# Altium schematic symbol library CPLD_Altera.SchLib: 26 symbols (part 2 of 2)
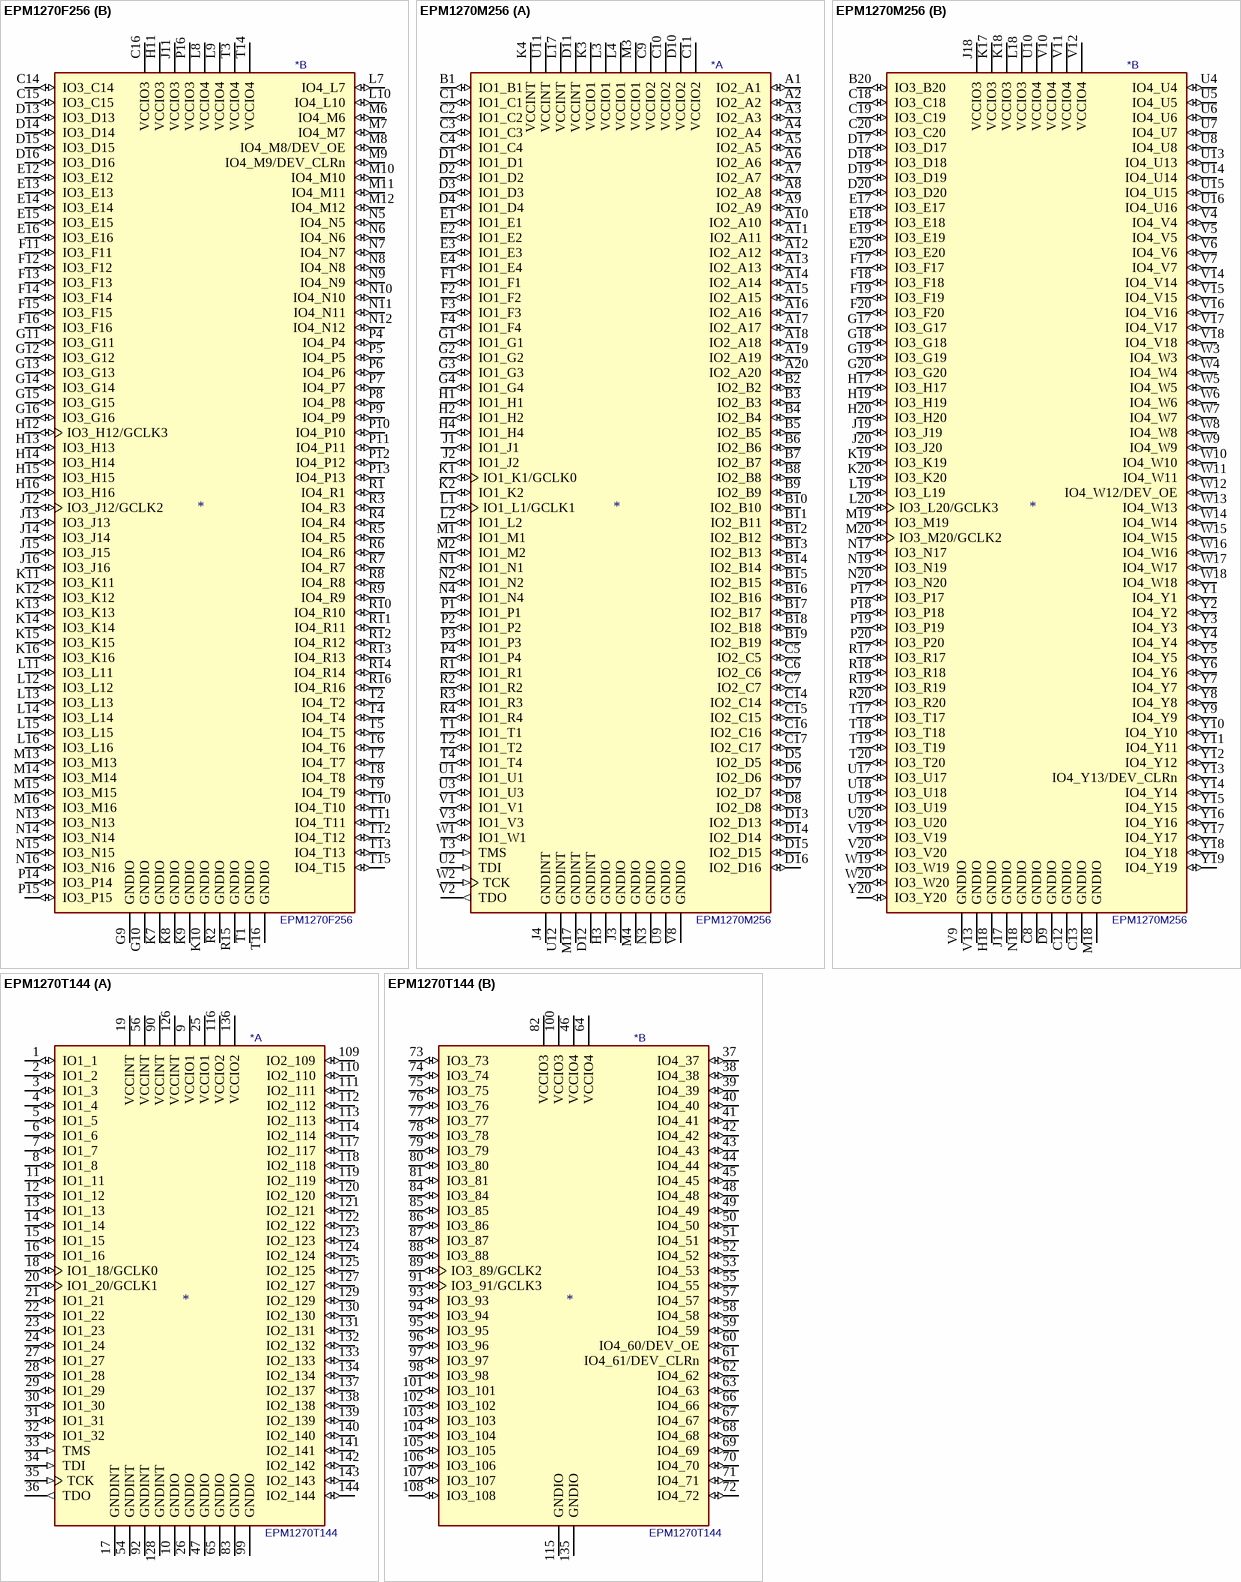
[diagram p7: symbols EPM1270F256 to EPM1270T144]

## EPM1270M256
designator *  value EPM1270M256
ki_keywords: MAX2 MBGA; ki_description: Altera MAX2 CPLD with 1270 LE; ki_fp_filters: *BGA*P0.5mm*; Footprint: Package_BGA:BGA-256_11.0x11.0mm_Layout20x20_P0.5mm_Ball0.3mm_Pad0.25mm_NSMD; Supplier: https://www.altera.com/content/dam/altera-www/global/en_US/pdfs/literature/hb/max2/max2_mii5v1.pdf
footprint BGA-256_11.0x11.0mm_Layout20x20_P0.5mm_Ball0.3mm_Pad0.25mm_NSMD
part A pins: A1 IO2_A1 (io), A2 IO2_A2 (io), A3 IO2_A3 (io), A4 IO2_A4 (io), A5 IO2_A5 (io), A6 IO2_A6 (io), A7 IO2_A7 (io), A8 IO2_A8 (io), A9 IO2_A9 (io), A10 IO2_A10 (io), A11 IO2_A11 (io), A12 IO2_A12 (io), A13 IO2_A13 (io), A14 IO2_A14 (io), A15 IO2_A15 (io), A16 IO2_A16 (io), A17 IO2_A17 (io), A18 IO2_A18 (io), A19 IO2_A19 (io), A20 IO2_A20 (io), B1 IO1_B1 (io), B2 IO2_B2 (io), B3 IO2_B3 (io), B4 IO2_B4 (io), B5 IO2_B5 (io), B6 IO2_B6 (io), B7 IO2_B7 (io), B8 IO2_B8 (io), B9 IO2_B9 (io), B10 IO2_B10 (io), B11 IO2_B11 (io), B12 IO2_B12 (io), B13 IO2_B13 (io), B14 IO2_B14 (io), B15 IO2_B15 (io), B16 IO2_B16 (io), B17 IO2_B17 (io), B18 IO2_B18 (io), B19 IO2_B19 (io), C1 IO1_C1 (io), C2 IO1_C2 (io), C3 IO1_C3 (io), C4 IO1_C4 (io), C5 IO2_C5 (io), C6 IO2_C6 (io), C7 IO2_C7 (io), C9 VCCIO2 (power), C10 VCCIO2 (power), C11 VCCIO2 (power), C14 IO2_C14 (io), C15 IO2_C15 (io), C16 IO2_C16 (io), C17 IO2_C17 (io), D1 IO1_D1 (io), D2 IO1_D2 (io), D3 IO1_D3 (io), D4 IO1_D4 (io), D5 IO2_D5 (io), D6 IO2_D6 (io), D7 IO2_D7 (io), D8 IO2_D8 (io), D10 VCCIO2 (power), D11 VCCINT (power), D12 GNDINT (power), D13 IO2_D13 (io), D14 IO2_D14 (io), D15 IO2_D15 (io), D16 IO2_D16 (io), E1 IO1_E1 (io), E2 IO1_E2 (io), E3 IO1_E3 (io), E4 IO1_E4 (io), F1 IO1_F1 (io), F2 IO1_F2 (io), F3 IO1_F3 (io), F4 IO1_F4 (io), G1 IO1_G1 (io), G2 IO1_G2 (io), G3 IO1_G3 (io), G4 IO1_G4 (io), H1 IO1_H1 (io), H2 IO1_H2 (io), H3 GNDIO (power), H4 IO1_H4 (io), J1 IO1_J1 (io), J2 IO1_J2 (io), J3 GNDIO (power), J4 GNDINT (power), K1 IO1_K1/GCLK0 (io), K2 IO1_K2 (io), K3 VCCIO1 (power), K4 VCCINT (power), L1 IO1_L1/GCLK1 (io), L2 IO1_L2 (io), L3 VCCIO1 (power), L4 VCCIO1 (power), L17 VCCINT (power), M1 IO1_M1 (io), M2 IO1_M2 (io), M3 VCCIO1 (power), M4 GNDIO (power), M17 GNDINT (power), N1 IO1_N1 (io), N2 IO1_N2 (io), N3 GNDIO (power), N4 IO1_N4 (io), P1 IO1_P1 (io), P2 IO1_P2 (io), P3 IO1_P3 (io), P4 IO1_P4 (io), R1 IO1_R1 (io), R2 IO1_R2 (io), R3 IO1_R3 (io), R4 IO1_R4 (io), T1 IO1_T1 (io), T2 IO1_T2 (io), T3 TMS (in), T4 IO1_T4 (io), U1 IO1_U1 (io), U2 TDI (in), U3 IO1_U3 (io), U9 GNDIO (power), U11 VCCINT (power), U12 GNDINT (power), V1 IO1_V1 (io), V2 TDO (out), V3 IO1_V3 (io), V8 GNDIO (power), W1 IO1_W1 (io), W2 TCK (in)
part B pins: B20 IO3_B20 (io), C8 GNDIO (power), C12 GNDIO (power), C13 GNDIO (power), C18 IO3_C18 (io), C19 IO3_C19 (io), C20 IO3_C20 (io), D9 GNDIO (power), D17 IO3_D17 (io), D18 IO3_D18 (io), D19 IO3_D19 (io), D20 IO3_D20 (io), E17 IO3_E17 (io), E18 IO3_E18 (io), E19 IO3_E19 (io), E20 IO3_E20 (io), F17 IO3_F17 (io), F18 IO3_F18 (io), F19 IO3_F19 (io), F20 IO3_F20 (io), G17 IO3_G17 (io), G18 IO3_G18 (io), G19 IO3_G19 (io), G20 IO3_G20 (io), H17 IO3_H17 (io), H18 GNDIO (power), H19 IO3_H19 (io), H20 IO3_H20 (io), J17 GNDIO (power), J18 VCCIO3 (power), J19 IO3_J19 (io), J20 IO3_J20 (io), K17 VCCIO3 (power), K18 VCCIO3 (power), K19 IO3_K19 (io), K20 IO3_K20 (io), L18 VCCIO3 (power), L19 IO3_L19 (io), L20 IO3_L20/GCLK3 (io), M18 GNDIO (power), M19 IO3_M19 (io), M20 IO3_M20/GCLK2 (io), N17 IO3_N17 (io), N18 GNDIO (power), N19 IO3_N19 (io), N20 IO3_N20 (io), P17 IO3_P17 (io), P18 IO3_P18 (io), P19 IO3_P19 (io), P20 IO3_P20 (io), R17 IO3_R17 (io), R18 IO3_R18 (io), R19 IO3_R19 (io), R20 IO3_R20 (io), T17 IO3_T17 (io), T18 IO3_T18 (io), T19 IO3_T19 (io), T20 IO3_T20 (io), U4 IO4_U4 (io), U5 IO4_U5 (io), U6 IO4_U6 (io), U7 IO4_U7 (io), U8 IO4_U8 (io), U10 VCCIO4 (power), U13 IO4_U13 (io), U14 IO4_U14 (io), U15 IO4_U15 (io), U16 IO4_U16 (io), U17 IO3_U17 (io), U18 IO3_U18 (io), U19 IO3_U19 (io), U20 IO3_U20 (io), V4 IO4_V4 (io), V5 IO4_V5 (io), V6 IO4_V6 (io), V7 IO4_V7 (io), V9 GNDIO (power), V10 VCCIO4 (power), V11 VCCIO4 (power), V12 VCCIO4 (power), V13 GNDIO (power), V14 IO4_V14 (io), V15 IO4_V15 (io), V16 IO4_V16 (io), V17 IO4_V17 (io), V18 IO4_V18 (io), V19 IO3_V19 (io), V20 IO3_V20 (io), W3 IO4_W3 (io), W4 IO4_W4 (io), W5 IO4_W5 (io), W6 IO4_W6 (io), W7 IO4_W7 (io), W8 IO4_W8 (io), W9 IO4_W9 (io), W10 IO4_W10 (io), W11 IO4_W11 (io), W12 IO4_W12/DEV_OE (io), W13 IO4_W13 (io), W14 IO4_W14 (io), W15 IO4_W15 (io), W16 IO4_W16 (io), W17 IO4_W17 (io), W18 IO4_W18 (io), W19 IO3_W19 (io), W20 IO3_W20 (io), Y1 IO4_Y1 (io), Y2 IO4_Y2 (io), Y3 IO4_Y3 (io), Y4 IO4_Y4 (io), Y5 IO4_Y5 (io), Y6 IO4_Y6 (io), Y7 IO4_Y7 (io), Y8 IO4_Y8 (io), Y9 IO4_Y9 (io), Y10 IO4_Y10 (io), Y11 IO4_Y11 (io), Y12 IO4_Y12 (io), Y13 IO4_Y13/DEV_CLRn (io), Y14 IO4_Y14 (io), Y15 IO4_Y15 (io), Y16 IO4_Y16 (io), Y17 IO4_Y17 (io), Y18 IO4_Y18 (io), Y19 IO4_Y19 (io), Y20 IO3_Y20 (io)

## EPM1270T144
designator *  value EPM1270T144
ki_keywords: MAX2 TQFP; ki_description: Altera MAX2 CPLD with 1270 LE; ki_fp_filters: *QFP*P0.5mm*; Footprint: Package_QFP:LQFP-144_20x20mm_P0.5mm; Supplier: https://www.altera.com/content/dam/altera-www/global/en_US/pdfs/literature/hb/max2/max2_mii5v1.pdf
footprint LQFP-144_20x20mm_P0.5mm
part A pins: 1 IO1_1 (io), 2 IO1_2 (io), 3 IO1_3 (io), 4 IO1_4 (io), 5 IO1_5 (io), 6 IO1_6 (io), 7 IO1_7 (io), 8 IO1_8 (io), 9 VCCIO1 (power), 10 GNDIO (power), 11 IO1_11 (io), 12 IO1_12 (io), 13 IO1_13 (io), 14 IO1_14 (io), 15 IO1_15 (io), 16 IO1_16 (io), 17 GNDINT (power), 18 IO1_18/GCLK0 (io), 19 VCCINT (power), 20 IO1_20/GCLK1 (io), 21 IO1_21 (io), 22 IO1_22 (io), 23 IO1_23 (io), 24 IO1_24 (io), 25 VCCIO1 (power), 26 GNDIO (power), 27 IO1_27 (io), 28 IO1_28 (io), 29 IO1_29 (io), 30 IO1_30 (io), 31 IO1_31 (io), 32 IO1_32 (io), 33 TMS (in), 34 TDI (in), 35 TCK (in), 36 TDO (out), 47 GNDIO (power), 54 GNDINT (power), 56 VCCINT (power), 65 GNDIO (power), 83 GNDIO (power), 90 VCCINT (power), 92 GNDINT (power), 99 GNDIO (power), 109 IO2_109 (io), 110 IO2_110 (io), 111 IO2_111 (io), 112 IO2_112 (io), 113 IO2_113 (io), 114 IO2_114 (io), 116 VCCIO2 (power), 117 IO2_117 (io), 118 IO2_118 (io), 119 IO2_119 (io), 120 IO2_120 (io), 121 IO2_121 (io), 122 IO2_122 (io), 123 IO2_123 (io), 124 IO2_124 (io), 125 IO2_125 (io), 126 VCCINT (power), 127 IO2_127 (io), 128 GNDINT (power), 129 IO2_129 (io), 130 IO2_130 (io), 131 IO2_131 (io), 132 IO2_132 (io), 133 IO2_133 (io), 134 IO2_134 (io), 136 VCCIO2 (power), 137 IO2_137 (io), 138 IO2_138 (io), 139 IO2_139 (io), 140 IO2_140 (io), 141 IO2_141 (io), 142 IO2_142 (io), 143 IO2_143 (io), 144 IO2_144 (io)
part B pins: 37 IO4_37 (io), 38 IO4_38 (io), 39 IO4_39 (io), 40 IO4_40 (io), 41 IO4_41 (io), 42 IO4_42 (io), 43 IO4_43 (io), 44 IO4_44 (io), 45 IO4_45 (io), 46 VCCIO4 (power), 48 IO4_48 (io), 49 IO4_49 (io), 50 IO4_50 (io), 51 IO4_51 (io), 52 IO4_52 (io), 53 IO4_53 (io), 55 IO4_55 (io), 57 IO4_57 (io), 58 IO4_58 (io), 59 IO4_59 (io), 60 IO4_60/DEV_OE (io), 61 IO4_61/DEV_CLRn (io), 62 IO4_62 (io), 63 IO4_63 (io), 64 VCCIO4 (power), 66 IO4_66 (io), 67 IO4_67 (io), 68 IO4_68 (io), 69 IO4_69 (io), 70 IO4_70 (io), 71 IO4_71 (io), 72 IO4_72 (io), 73 IO3_73 (io), 74 IO3_74 (io), 75 IO3_75 (io), 76 IO3_76 (io), 77 IO3_77 (io), 78 IO3_78 (io), 79 IO3_79 (io), 80 IO3_80 (io), 81 IO3_81 (io), 82 VCCIO3 (power), 84 IO3_84 (io), 85 IO3_85 (io), 86 IO3_86 (io), 87 IO3_87 (io), 88 IO3_88 (io), 89 IO3_89/GCLK2 (io), 91 IO3_91/GCLK3 (io), 93 IO3_93 (io), 94 IO3_94 (io), 95 IO3_95 (io), 96 IO3_96 (io), 97 IO3_97 (io), 98 IO3_98 (io), 100 VCCIO3 (power), 101 IO3_101 (io), 102 IO3_102 (io), 103 IO3_103 (io), 104 IO3_104 (io), 105 IO3_105 (io), 106 IO3_106 (io), 107 IO3_107 (io), 108 IO3_108 (io), 115 GNDIO (power), 135 GNDIO (power)

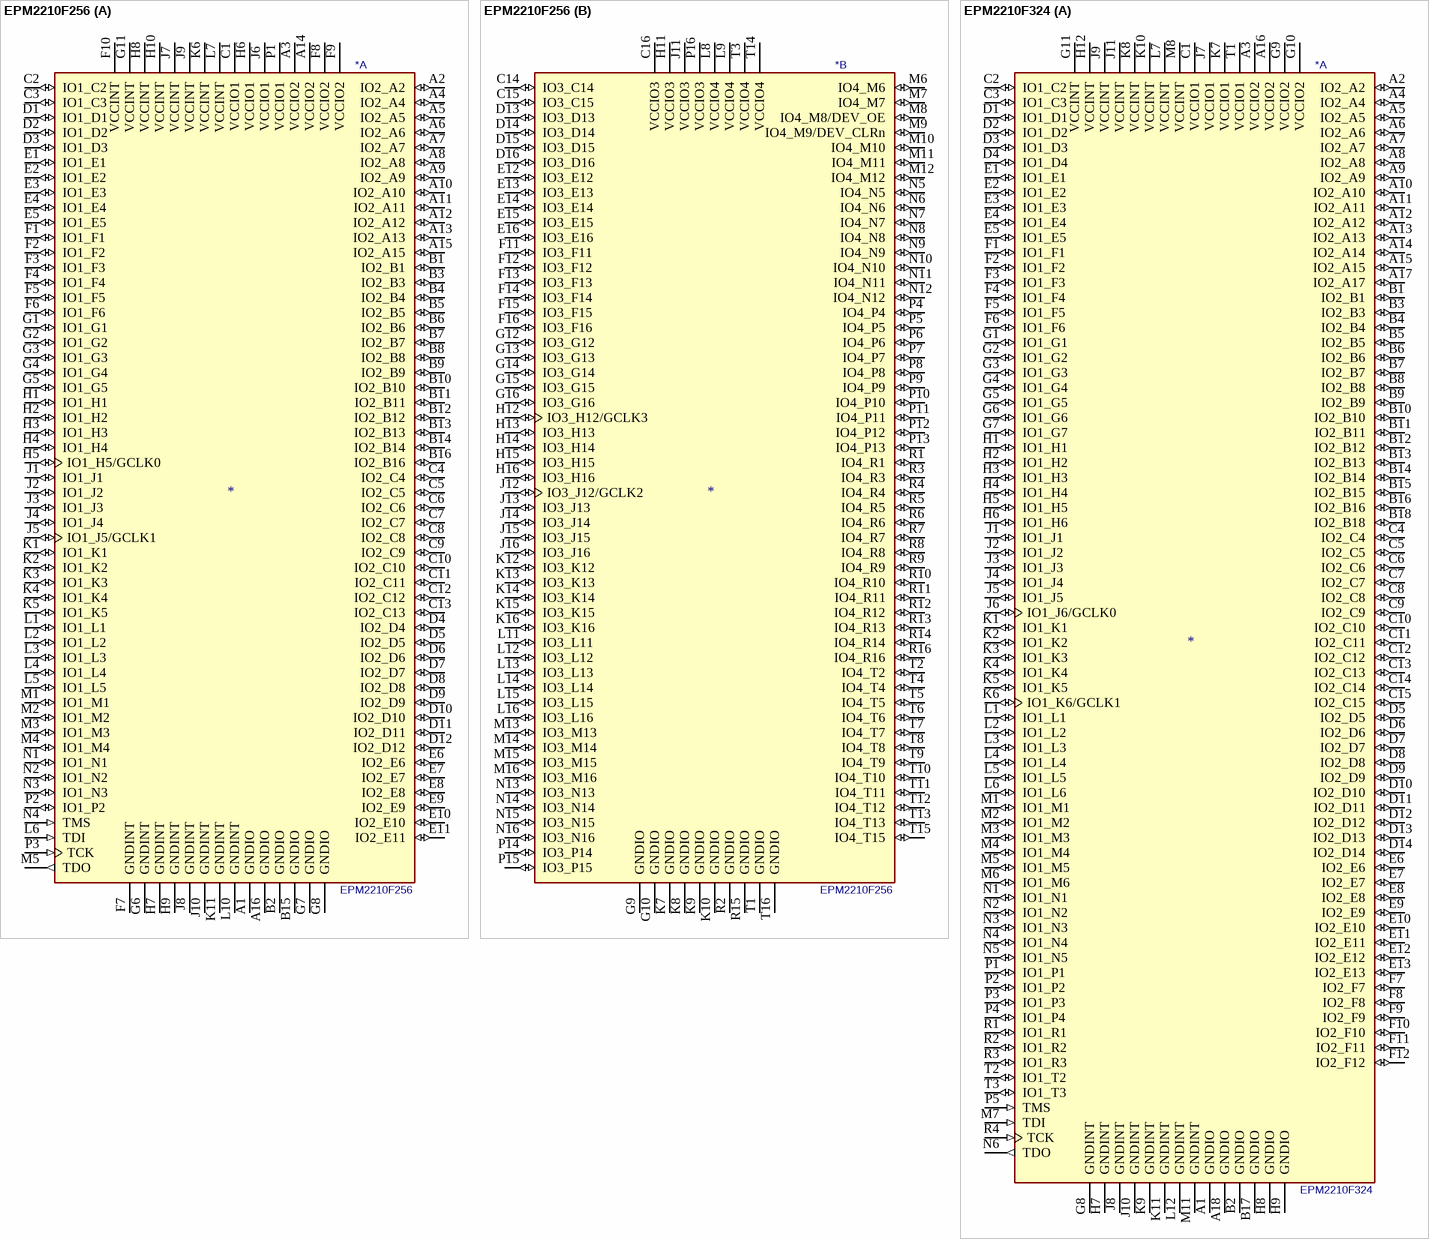
[diagram p5: symbols EPM2210F256 to EPM2210F324]

## EPM2210F256
designator *  value EPM2210F256
ki_keywords: MAX2 FBGA; ki_description: Altera MAX2 CPLD with 2210 LE; ki_fp_filters: *BGA*P1.0mm*; Footprint: Package_BGA:BGA-256_17.0x17.0mm_Layout16x16_P1.0mm_Ball0.5mm_Pad0.4mm_NSMD; Supplier: https://www.altera.com/content/dam/altera-www/global/en_US/pdfs/literature/hb/max2/max2_mii5v1.pdf
footprint BGA-256_17.0x17.0mm_Layout16x16_P1.0mm_Ball0.5mm_Pad0.4mm_NSMD
part A pins: A1 GNDIO (power), A2 IO2_A2 (io), A3 VCCIO2 (power), A4 IO2_A4 (io), A5 IO2_A5 (io), A6 IO2_A6 (io), A7 IO2_A7 (io), A8 IO2_A8 (io), A9 IO2_A9 (io), A10 IO2_A10 (io), A11 IO2_A11 (io), A12 IO2_A12 (io), A13 IO2_A13 (io), A14 VCCIO2 (power), A15 IO2_A15 (io), A16 GNDIO (power), B1 IO2_B1 (io), B2 GNDIO (power), B3 IO2_B3 (io), B4 IO2_B4 (io), B5 IO2_B5 (io), B6 IO2_B6 (io), B7 IO2_B7 (io), B8 IO2_B8 (io), B9 IO2_B9 (io), B10 IO2_B10 (io), B11 IO2_B11 (io), B12 IO2_B12 (io), B13 IO2_B13 (io), B14 IO2_B14 (io), B15 GNDIO (power), B16 IO2_B16 (io), C1 VCCIO1 (power), C2 IO1_C2 (io), C3 IO1_C3 (io), C4 IO2_C4 (io), C5 IO2_C5 (io), C6 IO2_C6 (io), C7 IO2_C7 (io), C8 IO2_C8 (io), C9 IO2_C9 (io), C10 IO2_C10 (io), C11 IO2_C11 (io), C12 IO2_C12 (io), C13 IO2_C13 (io), D1 IO1_D1 (io), D2 IO1_D2 (io), D3 IO1_D3 (io), D4 IO2_D4 (io), D5 IO2_D5 (io), D6 IO2_D6 (io), D7 IO2_D7 (io), D8 IO2_D8 (io), D9 IO2_D9 (io), D10 IO2_D10 (io), D11 IO2_D11 (io), D12 IO2_D12 (io), E1 IO1_E1 (io), E2 IO1_E2 (io), E3 IO1_E3 (io), E4 IO1_E4 (io), E5 IO1_E5 (io), E6 IO2_E6 (io), E7 IO2_E7 (io), E8 IO2_E8 (io), E9 IO2_E9 (io), E10 IO2_E10 (io), E11 IO2_E11 (io), F1 IO1_F1 (io), F2 IO1_F2 (io), F3 IO1_F3 (io), F4 IO1_F4 (io), F5 IO1_F5 (io), F6 IO1_F6 (io), F7 GNDINT (power), F8 VCCIO2 (power), F9 VCCIO2 (power), F10 VCCINT (power), G1 IO1_G1 (io), G2 IO1_G2 (io), G3 IO1_G3 (io), G4 IO1_G4 (io), G5 IO1_G5 (io), G6 GNDINT (power), G7 GNDIO (power), G8 GNDIO (power), G11 VCCINT (power), H1 IO1_H1 (io), H2 IO1_H2 (io), H3 IO1_H3 (io), H4 IO1_H4 (io), H5 IO1_H5/GCLK0 (io), H6 VCCIO1 (power), H7 GNDINT (power), H8 VCCINT (power), H9 GNDINT (power), H10 VCCINT (power), J1 IO1_J1 (io), J2 IO1_J2 (io), J3 IO1_J3 (io), J4 IO1_J4 (io), J5 IO1_J5/GCLK1 (io), J6 VCCIO1 (power), J7 VCCINT (power), J8 GNDINT (power), J9 VCCINT (power), J10 GNDINT (power), K1 IO1_K1 (io), K2 IO1_K2 (io), K3 IO1_K3 (io), K4 IO1_K4 (io), K5 IO1_K5 (io), K6 VCCINT (power), K11 GNDINT (power), L1 IO1_L1 (io), L2 IO1_L2 (io), L3 IO1_L3 (io), L4 IO1_L4 (io), L5 IO1_L5 (io), L6 TDI (in), L7 VCCINT (power), L10 GNDINT (power), M1 IO1_M1 (io), M2 IO1_M2 (io), M3 IO1_M3 (io), M4 IO1_M4 (io), M5 TDO (out), N1 IO1_N1 (io), N2 IO1_N2 (io), N3 IO1_N3 (io), N4 TMS (in), P1 VCCIO1 (power), P2 IO1_P2 (io), P3 TCK (in)
part B pins: C14 IO3_C14 (io), C15 IO3_C15 (io), C16 VCCIO3 (power), D13 IO3_D13 (io), D14 IO3_D14 (io), D15 IO3_D15 (io), D16 IO3_D16 (io), E12 IO3_E12 (io), E13 IO3_E13 (io), E14 IO3_E14 (io), E15 IO3_E15 (io), E16 IO3_E16 (io), F11 IO3_F11 (io), F12 IO3_F12 (io), F13 IO3_F13 (io), F14 IO3_F14 (io), F15 IO3_F15 (io), F16 IO3_F16 (io), G9 GNDIO (power), G10 GNDIO (power), G12 IO3_G12 (io), G13 IO3_G13 (io), G14 IO3_G14 (io), G15 IO3_G15 (io), G16 IO3_G16 (io), H11 VCCIO3 (power), H12 IO3_H12/GCLK3 (io), H13 IO3_H13 (io), H14 IO3_H14 (io), H15 IO3_H15 (io), H16 IO3_H16 (io), J11 VCCIO3 (power), J12 IO3_J12/GCLK2 (io), J13 IO3_J13 (io), J14 IO3_J14 (io), J15 IO3_J15 (io), J16 IO3_J16 (io), K7 GNDIO (power), K8 GNDIO (power), K9 GNDIO (power), K10 GNDIO (power), K12 IO3_K12 (io), K13 IO3_K13 (io), K14 IO3_K14 (io), K15 IO3_K15 (io), K16 IO3_K16 (io), L8 VCCIO4 (power), L9 VCCIO4 (power), L11 IO3_L11 (io), L12 IO3_L12 (io), L13 IO3_L13 (io), L14 IO3_L14 (io), L15 IO3_L15 (io), L16 IO3_L16 (io), M6 IO4_M6 (io), M7 IO4_M7 (io), M8 IO4_M8/DEV_OE (io), M9 IO4_M9/DEV_CLRn (io), M10 IO4_M10 (io), M11 IO4_M11 (io), M12 IO4_M12 (io), M13 IO3_M13 (io), M14 IO3_M14 (io), M15 IO3_M15 (io), M16 IO3_M16 (io), N5 IO4_N5 (io), N6 IO4_N6 (io), N7 IO4_N7 (io), N8 IO4_N8 (io), N9 IO4_N9 (io), N10 IO4_N10 (io), N11 IO4_N11 (io), N12 IO4_N12 (io), N13 IO3_N13 (io), N14 IO3_N14 (io), N15 IO3_N15 (io), N16 IO3_N16 (io), P4 IO4_P4 (io), P5 IO4_P5 (io), P6 IO4_P6 (io), P7 IO4_P7 (io), P8 IO4_P8 (io), P9 IO4_P9 (io), P10 IO4_P10 (io), P11 IO4_P11 (io), P12 IO4_P12 (io), P13 IO4_P13 (io), P14 IO3_P14 (io), P15 IO3_P15 (io), P16 VCCIO3 (power), R1 IO4_R1 (io), R2 GNDIO (power), R3 IO4_R3 (io), R4 IO4_R4 (io), R5 IO4_R5 (io), R6 IO4_R6 (io), R7 IO4_R7 (io), R8 IO4_R8 (io), R9 IO4_R9 (io), R10 IO4_R10 (io), R11 IO4_R11 (io), R12 IO4_R12 (io), R13 IO4_R13 (io), R14 IO4_R14 (io), R15 GNDIO (power), R16 IO4_R16 (io), T1 GNDIO (power), T2 IO4_T2 (io), T3 VCCIO4 (power), T4 IO4_T4 (io), T5 IO4_T5 (io), T6 IO4_T6 (io), T7 IO4_T7 (io), T8 IO4_T8 (io), T9 IO4_T9 (io), T10 IO4_T10 (io), T11 IO4_T11 (io), T12 IO4_T12 (io), T13 IO4_T13 (io), T14 VCCIO4 (power), T15 IO4_T15 (io), T16 GNDIO (power)

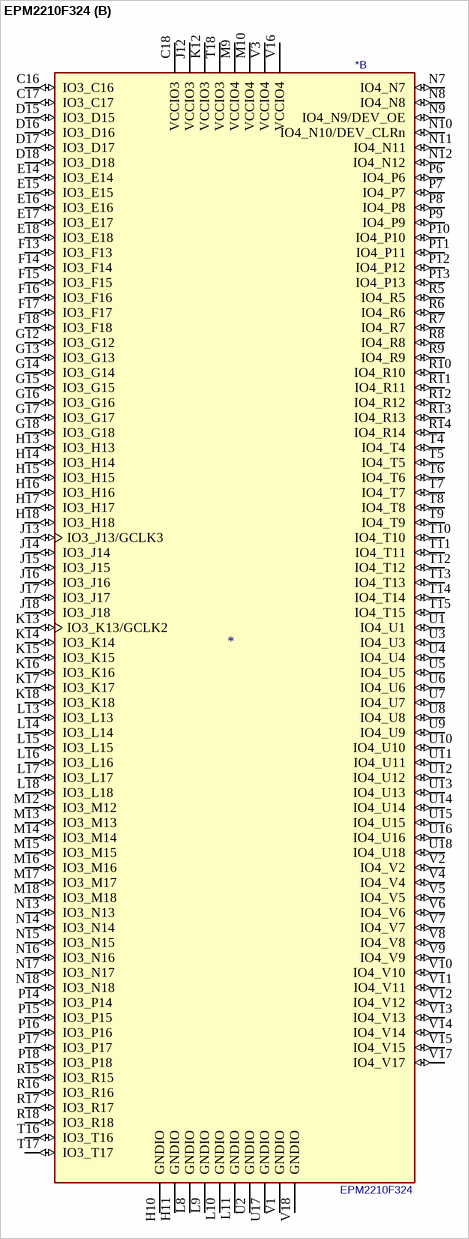
[diagram p6: symbol EPM2210F324]

## EPM2210F324
designator *  value EPM2210F324
ki_keywords: MAX2 FBGA; ki_description: Altera MAX2 CPLD with 2210 LE; ki_fp_filters: *BGA*P1.0mm*; Footprint: Package_BGA:BGA-324_19.0x19.0mm_Layout18x18_P1.0mm_Ball0.5mm_Pad0.4mm_NSMD; Supplier: https://www.altera.com/content/dam/altera-www/global/en_US/pdfs/literature/hb/max2/max2_mii5v1.pdf
footprint BGA-324_19.0x19.0mm_Layout18x18_P1.0mm_Ball0.5mm_Pad0.4mm_NSMD
part A pins: A1 GNDIO (power), A2 IO2_A2 (io), A3 VCCIO2 (power), A4 IO2_A4 (io), A5 IO2_A5 (io), A6 IO2_A6 (io), A7 IO2_A7 (io), A8 IO2_A8 (io), A9 IO2_A9 (io), A10 IO2_A10 (io), A11 IO2_A11 (io), A12 IO2_A12 (io), A13 IO2_A13 (io), A14 IO2_A14 (io), A15 IO2_A15 (io), A16 VCCIO2 (power), A17 IO2_A17 (io), A18 GNDIO (power), B1 IO2_B1 (io), B2 GNDIO (power), B3 IO2_B3 (io), B4 IO2_B4 (io), B5 IO2_B5 (io), B6 IO2_B6 (io), B7 IO2_B7 (io), B8 IO2_B8 (io), B9 IO2_B9 (io), B10 IO2_B10 (io), B11 IO2_B11 (io), B12 IO2_B12 (io), B13 IO2_B13 (io), B14 IO2_B14 (io), B15 IO2_B15 (io), B16 IO2_B16 (io), B17 GNDIO (power), B18 IO2_B18 (io), C1 VCCIO1 (power), C2 IO1_C2 (io), C3 IO1_C3 (io), C4 IO2_C4 (io), C5 IO2_C5 (io), C6 IO2_C6 (io), C7 IO2_C7 (io), C8 IO2_C8 (io), C9 IO2_C9 (io), C10 IO2_C10 (io), C11 IO2_C11 (io), C12 IO2_C12 (io), C13 IO2_C13 (io), C14 IO2_C14 (io), C15 IO2_C15 (io), D1 IO1_D1 (io), D2 IO1_D2 (io), D3 IO1_D3 (io), D4 IO1_D4 (io), D5 IO2_D5 (io), D6 IO2_D6 (io), D7 IO2_D7 (io), D8 IO2_D8 (io), D9 IO2_D9 (io), D10 IO2_D10 (io), D11 IO2_D11 (io), D12 IO2_D12 (io), D13 IO2_D13 (io), D14 IO2_D14 (io), E1 IO1_E1 (io), E2 IO1_E2 (io), E3 IO1_E3 (io), E4 IO1_E4 (io), E5 IO1_E5 (io), E6 IO2_E6 (io), E7 IO2_E7 (io), E8 IO2_E8 (io), E9 IO2_E9 (io), E10 IO2_E10 (io), E11 IO2_E11 (io), E12 IO2_E12 (io), E13 IO2_E13 (io), F1 IO1_F1 (io), F2 IO1_F2 (io), F3 IO1_F3 (io), F4 IO1_F4 (io), F5 IO1_F5 (io), F6 IO1_F6 (io), F7 IO2_F7 (io), F8 IO2_F8 (io), F9 IO2_F9 (io), F10 IO2_F10 (io), F11 IO2_F11 (io), F12 IO2_F12 (io), G1 IO1_G1 (io), G2 IO1_G2 (io), G3 IO1_G3 (io), G4 IO1_G4 (io), G5 IO1_G5 (io), G6 IO1_G6 (io), G7 IO1_G7 (io), G8 GNDINT (power), G9 VCCIO2 (power), G10 VCCIO2 (power), G11 VCCINT (power), H1 IO1_H1 (io), H2 IO1_H2 (io), H3 IO1_H3 (io), H4 IO1_H4 (io), H5 IO1_H5 (io), H6 IO1_H6 (io), H7 GNDINT (power), H8 GNDIO (power), H9 GNDIO (power), H12 VCCINT (power), J1 IO1_J1 (io), J2 IO1_J2 (io), J3 IO1_J3 (io), J4 IO1_J4 (io), J5 IO1_J5 (io), J6 IO1_J6/GCLK0 (io), J7 VCCIO1 (power), J8 GNDINT (power), J9 VCCINT (power), J10 GNDINT (power), J11 VCCINT (power), K1 IO1_K1 (io), K2 IO1_K2 (io), K3 IO1_K3 (io), K4 IO1_K4 (io), K5 IO1_K5 (io), K6 IO1_K6/GCLK1 (io), K7 VCCIO1 (power), K8 VCCINT (power), K9 GNDINT (power), K10 VCCINT (power), K11 GNDINT (power), L1 IO1_L1 (io), L2 IO1_L2 (io), L3 IO1_L3 (io), L4 IO1_L4 (io), L5 IO1_L5 (io), L6 IO1_L6 (io), L7 VCCINT (power), L12 GNDINT (power), M1 IO1_M1 (io), M2 IO1_M2 (io), M3 IO1_M3 (io), M4 IO1_M4 (io), M5 IO1_M5 (io), M6 IO1_M6 (io), M7 TDI (in), M8 VCCINT (power), M11 GNDINT (power), N1 IO1_N1 (io), N2 IO1_N2 (io), N3 IO1_N3 (io), N4 IO1_N4 (io), N5 IO1_N5 (io), N6 TDO (out), P1 IO1_P1 (io), P2 IO1_P2 (io), P3 IO1_P3 (io), P4 IO1_P4 (io), P5 TMS (in), R1 IO1_R1 (io), R2 IO1_R2 (io), R3 IO1_R3 (io), R4 TCK (in), T1 VCCIO1 (power), T2 IO1_T2 (io), T3 IO1_T3 (io)
part B pins: C16 IO3_C16 (io), C17 IO3_C17 (io), C18 VCCIO3 (power), D15 IO3_D15 (io), D16 IO3_D16 (io), D17 IO3_D17 (io), D18 IO3_D18 (io), E14 IO3_E14 (io), E15 IO3_E15 (io), E16 IO3_E16 (io), E17 IO3_E17 (io), E18 IO3_E18 (io), F13 IO3_F13 (io), F14 IO3_F14 (io), F15 IO3_F15 (io), F16 IO3_F16 (io), F17 IO3_F17 (io), F18 IO3_F18 (io), G12 IO3_G12 (io), G13 IO3_G13 (io), G14 IO3_G14 (io), G15 IO3_G15 (io), G16 IO3_G16 (io), G17 IO3_G17 (io), G18 IO3_G18 (io), H10 GNDIO (power), H11 GNDIO (power), H13 IO3_H13 (io), H14 IO3_H14 (io), H15 IO3_H15 (io), H16 IO3_H16 (io), H17 IO3_H17 (io), H18 IO3_H18 (io), J12 VCCIO3 (power), J13 IO3_J13/GCLK3 (io), J14 IO3_J14 (io), J15 IO3_J15 (io), J16 IO3_J16 (io), J17 IO3_J17 (io), J18 IO3_J18 (io), K12 VCCIO3 (power), K13 IO3_K13/GCLK2 (io), K14 IO3_K14 (io), K15 IO3_K15 (io), K16 IO3_K16 (io), K17 IO3_K17 (io), K18 IO3_K18 (io), L8 GNDIO (power), L9 GNDIO (power), L10 GNDIO (power), L11 GNDIO (power), L13 IO3_L13 (io), L14 IO3_L14 (io), L15 IO3_L15 (io), L16 IO3_L16 (io), L17 IO3_L17 (io), L18 IO3_L18 (io), M9 VCCIO4 (power), M10 VCCIO4 (power), M12 IO3_M12 (io), M13 IO3_M13 (io), M14 IO3_M14 (io), M15 IO3_M15 (io), M16 IO3_M16 (io), M17 IO3_M17 (io), M18 IO3_M18 (io), N7 IO4_N7 (io), N8 IO4_N8 (io), N9 IO4_N9/DEV_OE (io), N10 IO4_N10/DEV_CLRn (io), N11 IO4_N11 (io), N12 IO4_N12 (io), N13 IO3_N13 (io), N14 IO3_N14 (io), N15 IO3_N15 (io), N16 IO3_N16 (io), N17 IO3_N17 (io), N18 IO3_N18 (io), P6 IO4_P6 (io), P7 IO4_P7 (io), P8 IO4_P8 (io), P9 IO4_P9 (io), P10 IO4_P10 (io), P11 IO4_P11 (io), P12 IO4_P12 (io), P13 IO4_P13 (io), P14 IO3_P14 (io), P15 IO3_P15 (io), P16 IO3_P16 (io), P17 IO3_P17 (io), P18 IO3_P18 (io), R5 IO4_R5 (io), R6 IO4_R6 (io), R7 IO4_R7 (io), R8 IO4_R8 (io), R9 IO4_R9 (io), R10 IO4_R10 (io), R11 IO4_R11 (io), R12 IO4_R12 (io), R13 IO4_R13 (io), R14 IO4_R14 (io), R15 IO3_R15 (io), R16 IO3_R16 (io), R17 IO3_R17 (io), R18 IO3_R18 (io), T4 IO4_T4 (io), T5 IO4_T5 (io), T6 IO4_T6 (io), T7 IO4_T7 (io), T8 IO4_T8 (io), T9 IO4_T9 (io), T10 IO4_T10 (io), T11 IO4_T11 (io), T12 IO4_T12 (io), T13 IO4_T13 (io), T14 IO4_T14 (io), T15 IO4_T15 (io), T16 IO3_T16 (io), T17 IO3_T17 (io), T18 VCCIO3 (power), U1 IO4_U1 (io), U2 GNDIO (power), U3 IO4_U3 (io), U4 IO4_U4 (io), U5 IO4_U5 (io), U6 IO4_U6 (io), U7 IO4_U7 (io), U8 IO4_U8 (io), U9 IO4_U9 (io), U10 IO4_U10 (io), U11 IO4_U11 (io), U12 IO4_U12 (io), U13 IO4_U13 (io), U14 IO4_U14 (io), U15 IO4_U15 (io), U16 IO4_U16 (io), U17 GNDIO (power), U18 IO4_U18 (io), V1 GNDIO (power), V2 IO4_V2 (io), V3 VCCIO4 (power), V4 IO4_V4 (io), V5 IO4_V5 (io), V6 IO4_V6 (io), V7 IO4_V7 (io), V8 IO4_V8 (io), V9 IO4_V9 (io), V10 IO4_V10 (io), V11 IO4_V11 (io), V12 IO4_V12 (io), V13 IO4_V13 (io), V14 IO4_V14 (io), V15 IO4_V15 (io), V16 VCCIO4 (power), V17 IO4_V17 (io), V18 GNDIO (power)